# Altium schematic symbol library Power.SchLib: 6 symbols
Pins are listed as number, name and electrical type; pins without a type are passive.

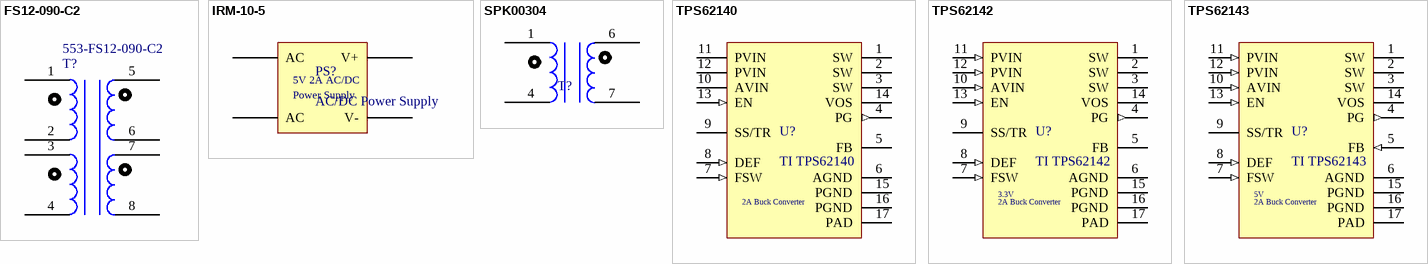
[diagram p0: symbols FS12-090-C2 to TPS62143]

## FS12-090-C2
designator T?  Supplier Part Number 1: 553-FS12-090-C2  (hidden comment: *)
Power Transformers 12.6V@.09A 6.3V@.18A 1.1VA 8pin Class 2; Manufacturer: Triad Magnetics; Manufacturer Part Number: FS12-090-C2; Primary Winding(s): Dual; Power Rating: 1.1W; Frequency: 50Hz; Secondary Current: 90mA; Supplier 1: Mouser; Stock 1: 261; Pricing 1: 1=4.28, 10=3.25, 50=2.91, 100=2.74, 1000=2.48, 10000=2.4 (USD); Mount: Through Hole; Number of Pins: 8; Weight: 0.17lb; Package Quantity: 10; Termination: Solder; Secondary Winding(s): Dual; Packaging: Rail/Tube; Current Rating: 90mA; Length: 1.375inch; Height: 0.937inch; Width: 1.125inch; REACH SVHC: Unknown; Lead Free: Lead Free; ComponentLink1URL: https://datasheet.ciiva.com/24115/s12-090-c2-263543-24115969.pdf; ComponentLink1Description: https://datasheet.ciiva.com/24115/s12-090-c2-263543-24115969.pdf; ComponentLink2URL: https://datasheet.ciiva.com/43515/fs12-090-c2-43515909.pdf; ComponentLink2Description: https://datasheet.ciiva.com/43515/fs12-090-c2-43515909.pdf
footprint FS12-090-C2
pins: 1, 2, 3, 4, 5, 6, 7, 8

## IRM-10-5
designator PS?, comment AC/DC Power Supply
AC/DC Power Modules 5V 2A 10W 85-264Vin Encap PS; Supplier 1: Allied; Supplier Part Number 1: 70387823; Mouser Link: http://www.mouser.com/ProductDetail/Mean-Well/IRM-10-5/?qs=sGAEpiMZZMuWiaalG5TUgH52QN1%252bIKAVGLeN4i9HrWU2QI8q%2fOO4Cw%3d%3d; Supplier 2: Mouser; Supplier Part Number 2: Anonymous Daily Limit Reached
footprint IRM-10-5 (AC/DC Power Modules 5V 2A 10W 85-264Vin Encap PS)
pins: AC1 AC (power), AC2 AC (power), V+ (power), V- (power)
text: 5V 2A AC/DC; Power Supply

## SPK00304
designator T?  (value not drawn)
Standard PCB-Transformers | SPK-003 | POWER 0.35 VA
footprint SPK003
pins: 1, 4, 6, 7

## TPS62140
designator U?, comment TI TPS62140
TI TPS62140 3-17V 2A Buck Converter; Supplier 1: Digi-Key; Supplier Part Number 1: 296-29938-1-ND
footprint PQFN50P300X300X100_HS-17N (PQFN, 16-Leads, Body 3.00x3.00mm, Pitch 0.50mm, Thermal Pad 1.75x1.75mm, IPC Medium Density)
pins: 1 SW, 2 SW, 3 SW, 4 PG (out), 5 FB, 6 AGND (power), 7 FSW (in), 8 DEF (in), 9 SS/TR, 10 AVIN, 11 PVIN, 12 PVIN, 13 EN (in), 14 VOS, 15 PGND (power), 16 PGND (power), 17 PAD (power)
text: 2A Buck Converter

## TPS62142
designator U?, comment TI TPS62142
TI TPS62142 3-17V 2A 3.3V Buck Converter; Supplier 1: Digi-Key; Supplier Part Number 1: 296-39447-1-ND
footprint PQFN50P300X300X100_HS-17N (PQFN, 16-Leads, Body 3.00x3.00mm, Pitch 0.50mm, Thermal Pad 1.75x1.75mm, IPC Medium Density)
pins: 1 SW, 2 SW, 3 SW, 4 PG (out), 5 FB, 6 AGND (power), 7 FSW (in), 8 DEF (in), 9 SS/TR, 10 AVIN (in), 11 PVIN (in), 12 PVIN (in), 13 EN (in), 14 VOS, 15 PGND (power), 16 PGND (power), 17 PAD (power)
text: 3.3V; 2A Buck Converter

## TPS62143
designator U?, comment TI TPS62143
TI TPS62143 3-17V 2A 5V Buck Converter; Supplier 1: Digi-Key; Supplier Part Number 1: 296-29941-1-ND
footprint PQFN50P300X300X100_HS-17N (PQFN, 16-Leads, Body 3.00x3.00mm, Pitch 0.50mm, Thermal Pad 1.75x1.75mm, IPC Medium Density)
pins: 1 SW, 2 SW, 3 SW, 4 PG (out), 5 FB (in), 6 AGND (power), 7 FSW (in), 8 DEF (in), 9 SS/TR, 10 AVIN (in), 11 PVIN (in), 12 PVIN (in), 13 EN (in), 14 VOS, 15 PGND (power), 16 PGND (power), 17 PAD (power)
text: 5V; 2A Buck Converter